# Altium integrated library AMASS.IntLib: 6 symbols
Pins are listed as number, name and electrical type; pins without a type are passive.

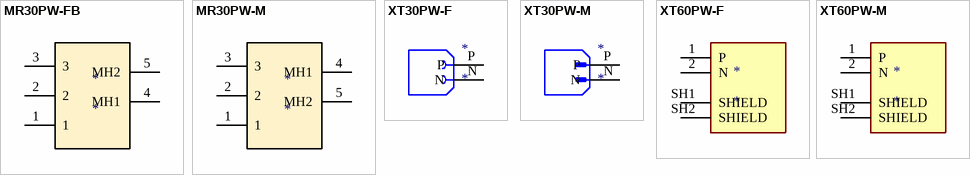
[diagram p0: symbols MR30PW-FB to XT60PW-M]

## MR30PW-FB
designator *
footprint MR30PW-FB
pins: 1, 2, 3, 4 MH1, 5 MH2

## MR30PW-M
designator *
footprint MR30PW-M
pins: 1, 2, 3, 4 MH1, 5 MH2

## XT30PW-F
designator *
footprint XT30PW-F
pins: N (power), P (power)

## XT30PW-M
designator *
footprint XT30PW-M
pins: N (power), P (power)

## XT60PW-F
designator *
footprint XT60PW-F
pins: 1 P, 2 N, SH1 SHIELD, SH2 SHIELD

## XT60PW-M
designator *
footprint XT60PW-M
pins: 1 P, 2 N, SH1 SHIELD, SH2 SHIELD